# EAGLE library part TRISTAN+ROBITAILLE'S+LIBRARY_DX07S024JJ2_USB_TYPE-C (library pendulum_control_board)
JAE DX07S024JJ2 USB Type-C Connector ***Footprint contains plated drill holes (2mm diameter) instead of plated slots (easier on fabhouse)*** Technical Specifications: Mating cycles: 10,000 times Contact resistance: 40mΩ (max.) Rated current: 1.25A (max.) on pins A1, A4, A9, A12, B1, B4, B5, B9 and B12 0.25A (max.) on others Rated voltage: 20Vrms Datasheet <https://www.jae.com/z-en/pdf_download_exec.cfm?param=MB-0297-3E_DX07.pdf> Digi-Key part #: 670-2794-6-ND <http://www.digikey.com/product-detail/en/jae-electronics/DX07S024JJ2R1300/670-2794-6-ND/5246069> Mouser part #: 656-DX07S024JJ2R1300 <http://ca.mouser.com/ProductDetail/JAE-Electronics/DX07S024JJ2R1300/?qs=%2fha2pyFaduhsAyGD7ZqdDeHjVi4g0c8wrw%252bV08Os%252brQ5DqW1EY3Lew%3d%3d> Manufacturer part #: DX07S024JJ2R1300
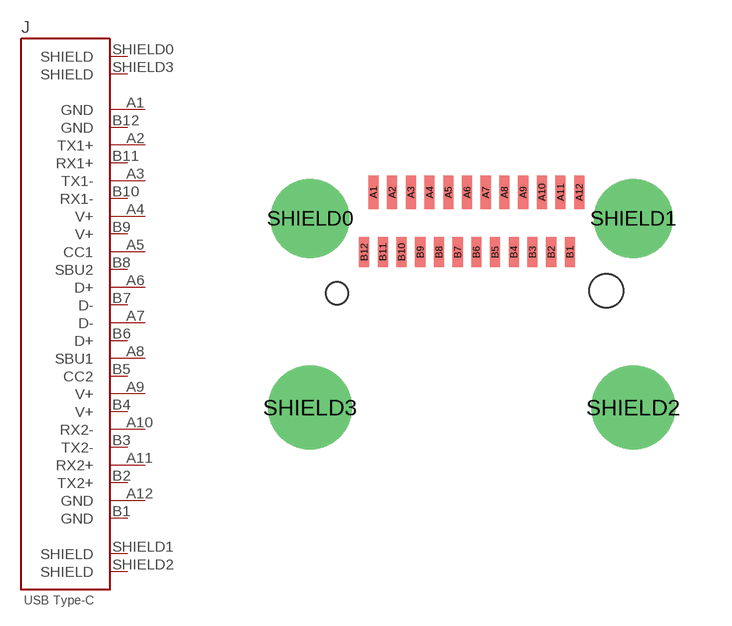
[diagram p9: symbol with the pads of TRISTAN+ROBITAILLE'S+LIBRARY_DX07S0224JJ2_USB-C; footprint TRISTAN+ROBITAILLE'S+LIBRARY_DX07S0224JJ2_USB-C]

Designator prefix J

## TRISTAN+ROBITAILLE'S+LIBRARY_DX07S024JJ2_USB_TYPE-C (DIGIKEY#: 670-2794-6-ND; MANF: USB Type-C DX07 Series Receptacle; MANF#: DX07S024JJ2R1300; MOUSER#: 656-DX07S024JJ2R1300)  [TRISTAN+ROBITAILLE'S+LIBRARY_DX07S0224JJ2_USB-C]
A1  GND  pwr
A2  TX1+  out
A3  TX1-  out
A4  V+  pwr
A5  CC1
A6  D+
A7  D-
A8  SBU1
A9  V+  pwr
A10  RX2-  in
A11  RX2+  in
A12  GND  pwr
B1  GND  pwr
B2  TX2+  out
B3  TX2-  out
B4  V+  pwr
B5  CC2
B6  D+
B7  D-
B8  SBU2
B9  V+  pwr
B10  RX1-  in
B11  RX1+  in
B12  GND  pwr
SHIELD0  SHIELD
SHIELD1  SHIELD
SHIELD2  SHIELD
SHIELD3  SHIELD

## Footprint TRISTAN+ROBITAILLE'S+LIBRARY_DX07S0224JJ2_USB-C (pad centres in mm)
Used 2mm plated holes instead of plated slots (easier on fabhouse)
smd 0.27 x 0.9: A1 0.975,2.7; A2 1.475,2.7; A3 1.975,2.7; A4 2.475,2.7; A5 2.975,2.7; A6 3.475,2.7; A7 3.975,2.7; A8 4.475,2.7; A9 4.975,2.7; A10 5.475,2.7; A11 5.975,2.7; A12 6.475,2.7
smd 0.27 x 0.8: B1 6.225,1.1; B2 5.725,1.1; B3 5.225,1.1; B4 4.725,1.1; B5 4.225,1.1; B6 3.725,1.1; B7 3.225,1.1; B8 2.725,1.1; B9 2.225,1.1; B10 1.725,1.1; B11 1.225,1.1; B12 0.725,1.1
drill 1.4: SHIELD0 -0.72,2; SHIELD1 7.92,2
drill 1.5: SHIELD2 7.92,-3.05; SHIELD3 -0.72,-3.05
hole 0.6 at 0,0
hole 0.9 at 7.2,0.065
hole 0.6 at 0,0